# EAGLE library part MCM6708A (library memory-sram)
MEMORY
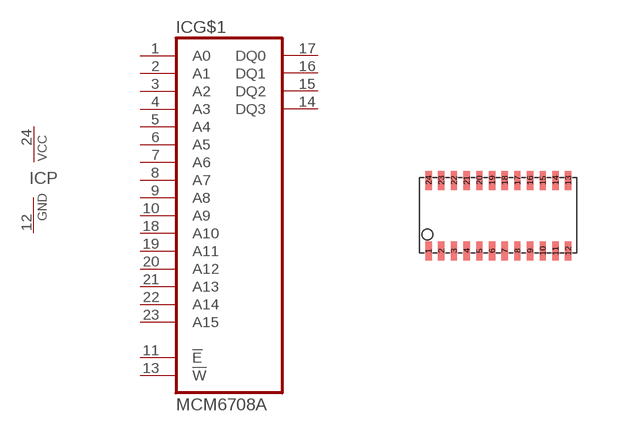
[diagram p25: symbol with the pads of SOJ24/3; footprint SOJ24/3]

Designator prefix IC; gates G$1=CM6708A P=PWRN

## MCM6708A  [SOJ24/3]
1  G$1:A0  in
2  G$1:A1  in
3  G$1:A2  in
4  G$1:A3  in
5  G$1:A4  in
6  G$1:A5  in
7  G$1:A6  in
8  G$1:A7  in
9  G$1:A8  in
10  G$1:A9  in
11  G$1:!E  in
12  P:GND  pwr
13  G$1:!W  in
14  G$1:DQ3
15  G$1:DQ2
16  G$1:DQ1
17  G$1:DQ0
18  G$1:A10  in
19  G$1:A11  in
20  G$1:A12  in
21  G$1:A13  in
22  G$1:A14  in
23  G$1:A15  in
24  P:VCC  pwr

## Footprint SOJ24/3 (pad centres in mm)
Small Outline J-Bend
smd 0.159 x 0.476: 1 -1.587,-0.883; 2 -1.27,-0.883; 3 -0.953,-0.883; 4 -0.635,-0.883; 5 -0.318,-0.883; 6 0,-0.883; 7 0.318,-0.883; 8 0.635,-0.883; 9 0.953,-0.883; 10 1.27,-0.883; 11 1.587,-0.883; 12 1.905,-0.883; 13 1.905,0.883; 14 1.587,0.883; 15 1.27,0.883; 16 0.953,0.883; 17 0.635,0.883; 18 0.318,0.883; 19 0,0.883; 20 -0.318,0.883; 21 -0.635,0.883; 22 -0.953,0.883; 23 -1.27,0.883; 24 -1.587,0.883